# EAGLE library part RABBIT2000 (library micro-rabbit)
Rabbit 2000 Processor
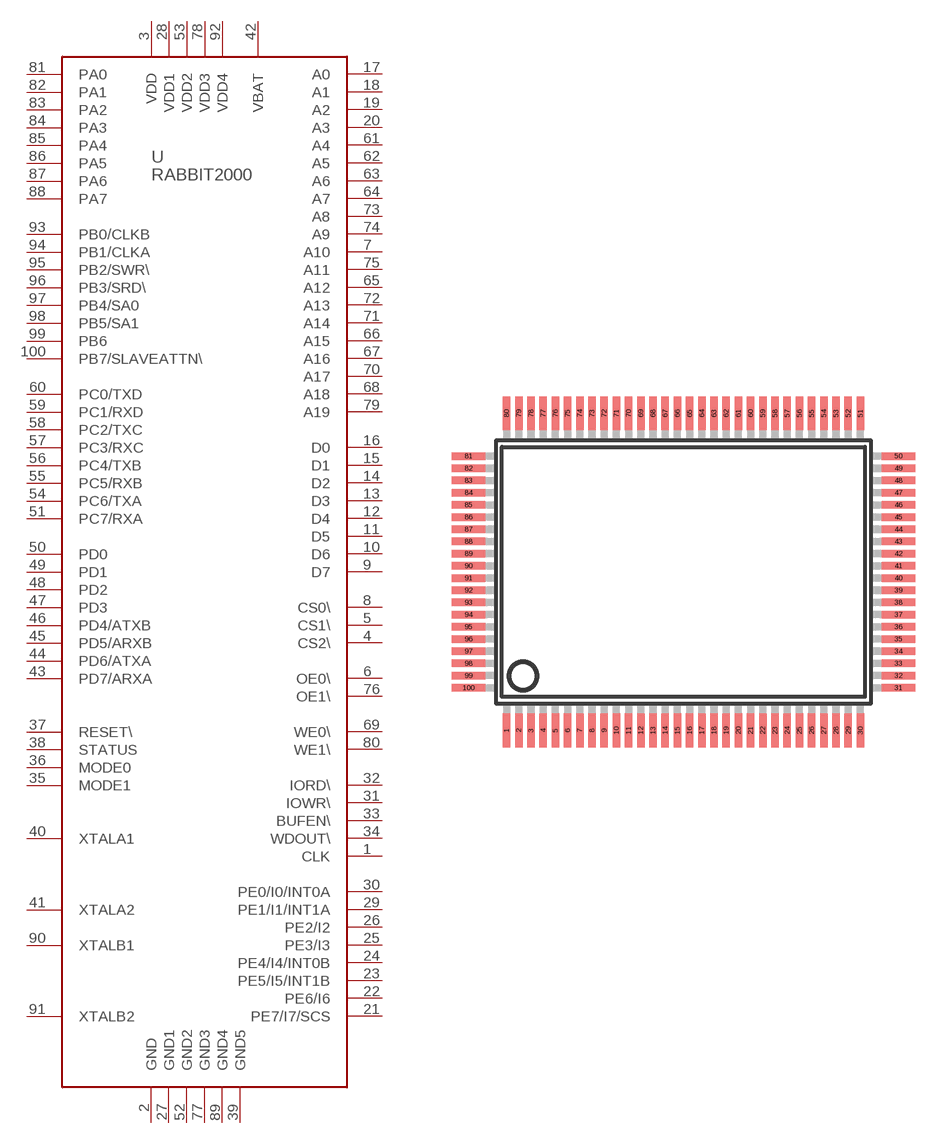
[diagram p0: symbol with the pads of SQFP-R-14X20-100; footprint SQFP-R-14X20-100]

Designator prefix U

## RABBIT2000  [SQFP-R-14X20-100]
1  CLK  out
2  GND  pwr
3  VDD  pwr
4  CS2\  out
5  CS1\  out
6  OE0\  out
7  A10  out
8  CS0\  out
9  D7
10  D6
11  D5
12  D4
13  D3
14  D2
15  D1
16  D0
17  A0  out
18  A1  out
19  A2  out
20  A3  out
21  PE7/I7/SCS
22  PE6/I6
23  PE5/I5/INT1B
24  PE4/I4/INT0B
25  PE3/I3
26  PE2/I2
27  GND1  pwr
28  VDD1  pwr
29  PE1/I1/INT1A
30  PE0/I0/INT0A
31  IOWR\  out
32  IORD\  out
33  BUFEN\  out
34  WDOUT\  out
35  MODE1  in
36  MODE0  in
37  RESET\  in
38  STATUS  out
39  GND5  pwr
40  XTALA1  in
41  XTALA2  out
42  VBAT  pwr
43  PD7/ARXA
44  PD6/ATXA
45  PD5/ARXB
46  PD4/ATXB
47  PD3
48  PD2
49  PD1
50  PD0
51  PC7/RXA  in
52  GND2  pwr
53  VDD2  pwr
54  PC6/TXA  out
55  PC5/RXB  in
56  PC4/TXB  out
57  PC3/RXC  in
58  PC2/TXC  out
59  PC1/RXD  in
60  PC0/TXD  out
61  A4  out
62  A5  out
63  A6  out
64  A7  out
65  A12  out
66  A15  out
67  A16  out
68  A18  out
69  WE0\  out
70  A17  out
71  A14  out
72  A13  out
73  A8  out
74  A9  out
75  A11  out
76  OE1\  out
77  GND3  pwr
78  VDD3  pwr
79  A19  out
80  WE1\  out
81  PA0
82  PA1
83  PA2
84  PA3
85  PA4
86  PA5
87  PA6
88  PA7
89  GND4  pwr
90  XTALB1  in
91  XTALB2  out
92  VDD4  pwr
93  PB0/CLKB
94  PB1/CLKA
95  PB2/SWR\
96  PB3/SRD\
97  PB4/SA0
98  PB5/SA1
99  PB6
100  PB7/SLAVEATTN\

## Footprint SQFP-R-14X20-100 (pad centres in mm)
QFP100 shrink quad flat pack, rectangle
smd 0.4 x 1.8: 1 -9.425,-8.45; 2 -8.775,-8.45; 3 -8.125,-8.45; 4 -7.475,-8.45; 5 -6.825,-8.45; 6 -6.175,-8.45; 7 -5.525,-8.45; 8 -4.875,-8.45; 9 -4.225,-8.45; 10 -3.575,-8.45; 11 -2.925,-8.45; 12 -2.275,-8.45; 13 -1.625,-8.45; 14 -0.975,-8.45; 15 -0.325,-8.45; 16 0.325,-8.45; 17 0.975,-8.45; 18 1.625,-8.45; 19 2.275,-8.45; 20 2.925,-8.45; 21 3.575,-8.45; 22 4.225,-8.45; 23 4.875,-8.45; 24 5.525,-8.45; 25 6.175,-8.45; 26 6.825,-8.45; 27 7.475,-8.45; 28 8.125,-8.45; 29 8.775,-8.45; 30 9.425,-8.45; 51 9.425,8.45; 52 8.775,8.45; 53 8.125,8.45; 54 7.475,8.45; 55 6.825,8.45; 56 6.175,8.45; 57 5.525,8.45; 58 4.875,8.45; 59 4.225,8.45; 60 3.575,8.45; 61 2.925,8.45; 62 2.275,8.45; 63 1.625,8.45; 64 0.975,8.45; 65 0.325,8.45; 66 -0.325,8.45; 67 -0.975,8.45; 68 -1.625,8.45; 69 -2.275,8.45; 70 -2.925,8.45; 71 -3.575,8.45; 72 -4.225,8.45; 73 -4.875,8.45; 74 -5.525,8.45; 75 -6.175,8.45; 76 -6.825,8.45; 77 -7.475,8.45; 78 -8.125,8.45; 79 -8.775,8.45; 80 -9.425,8.45
smd 1.8 x 0.4: 31 11.45,-6.175; 32 11.45,-5.525; 33 11.45,-4.875; 34 11.45,-4.225; 35 11.45,-3.575; 36 11.45,-2.925; 37 11.45,-2.275; 38 11.45,-1.625; 39 11.45,-0.975; 40 11.45,-0.325; 41 11.45,0.325; 42 11.45,0.975; 43 11.45,1.625; 44 11.45,2.275; 45 11.45,2.925; 46 11.45,3.575; 47 11.45,4.225; 48 11.45,4.875; 49 11.45,5.525; 50 11.45,6.175; 81 -11.45,6.175; 82 -11.45,5.525; 83 -11.45,4.875; 84 -11.45,4.225; 85 -11.45,3.575; 86 -11.45,2.925; 87 -11.45,2.275; 88 -11.45,1.625; 89 -11.45,0.975; 90 -11.45,0.325; 91 -11.45,-0.325; 92 -11.45,-0.975; 93 -11.45,-1.625; 94 -11.45,-2.275; 95 -11.45,-2.925; 96 -11.45,-3.575; 97 -11.45,-4.225; 98 -11.45,-4.875; 99 -11.45,-5.525; 100 -11.45,-6.175